# EAGLE library part EDB* (library mcu)
edit this description Auto generated by make-symbol-device-package-bsdl.ulp Rev. 44 Source: Connect-List generated from LP2_DUMMY.DEV Variant LP with connect-device-split-symbol.ulp Connect-List generated from EDB*32BE?-1DIT-F.DEV Variant BH with connect-device-split-symbol.ulp
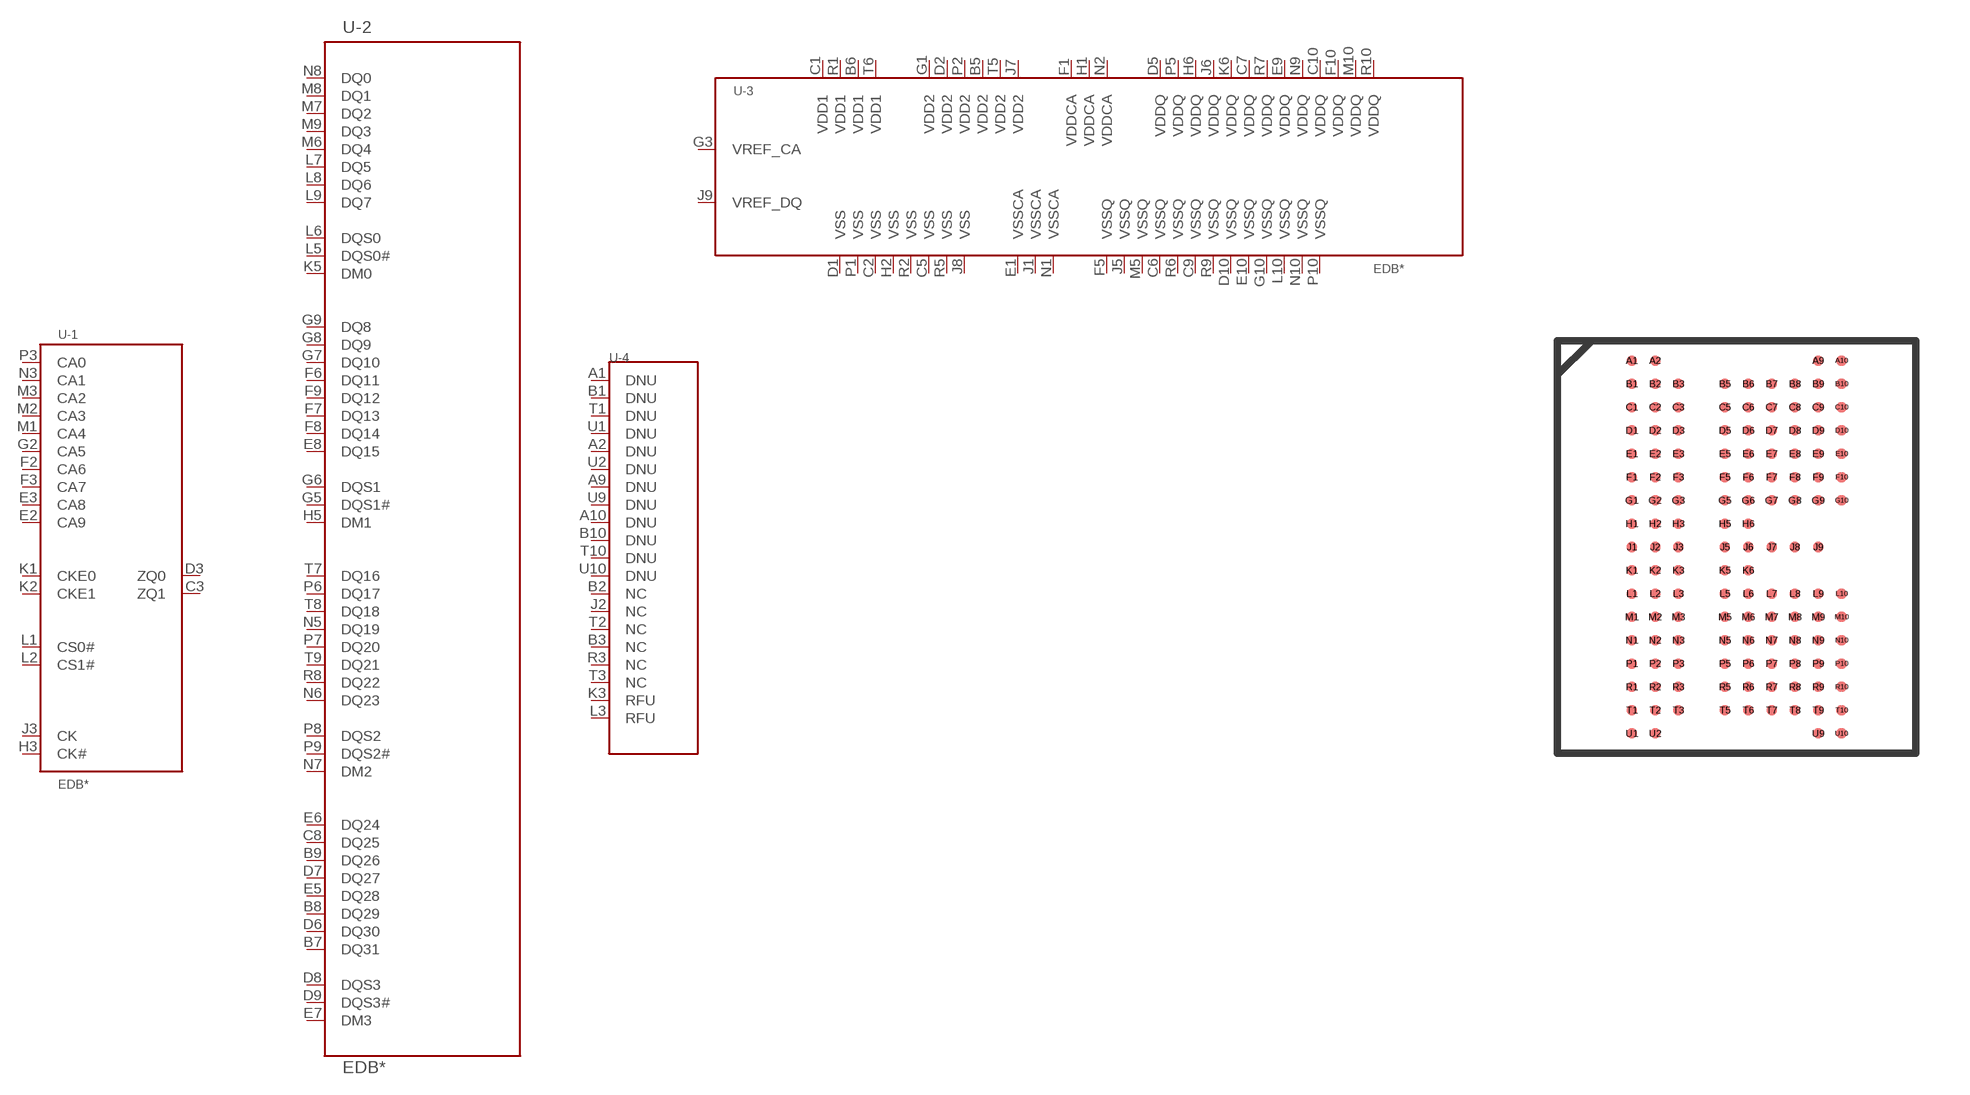
[diagram p1: symbol with the pads of VFBGA_134B_10X11.5; footprint VFBGA_134B_10X11.5]

Designator prefix U; gates -1=LPDDR2.CTRL -2=LPDDR2.DATA -4=LPDDR2.NC -3=LPDDR2.POWER

## EDB1332BDBH-1DIT-F (BUSWIDTH: x32; DATARATE: 1066; DENSITY: 1Gb; MANUFACTURER: Micron; TEMP: -40C to +85C), EDB5432BEBH-1DIT-F (BUSWIDTH: x32; DATARATE: 1066; DENSITY: 512Mb; MANUFACTURER: Micron; TEMP: -40C to +85C)  [VFBGA_134B_10X11.5]
A1  -4:DNU  nc
A2  -4:DNU  nc
A9  -4:DNU  nc
A10  -4:DNU  nc
B1  -4:DNU  nc
B2  -4:NC  nc
B3  -4:NC  nc
B5  -3:VDD2  pwr
B6  -3:VDD1  pwr
B7  -2:DQ31
B8  -2:DQ29
B9  -2:DQ26
B10  -4:DNU  nc
C1  -3:VDD1  pwr
C2  -3:VSS  pwr
C3  -1:ZQ1  hiz
C5  -3:VSS  pwr
C6  -3:VSSQ  pwr
C7  -3:VDDQ  pwr
C8  -2:DQ25
C9  -3:VSSQ  pwr
C10  -3:VDDQ  pwr
D1  -3:VSS  pwr
D2  -3:VDD2  pwr
D3  -1:ZQ0  hiz
D5  -3:VDDQ  pwr
D6  -2:DQ30
D7  -2:DQ27
D8  -2:DQS3
D9  -2:DQS3#
D10  -3:VSSQ  pwr
E1  -3:VSSCA  pwr
E2  -1:CA9  in
E3  -1:CA8  in
E5  -2:DQ28
E6  -2:DQ24
E7  -2:DM3  in
E8  -2:DQ15
E9  -3:VDDQ  pwr
E10  -3:VSSQ  pwr
F1  -3:VDDCA  pwr
F2  -1:CA6  in
F3  -1:CA7  in
F5  -3:VSSQ  pwr
F6  -2:DQ11
F7  -2:DQ13
F8  -2:DQ14
F9  -2:DQ12
F10  -3:VDDQ  pwr
G1  -3:VDD2  pwr
G2  -1:CA5  in
G3  -3:VREF_CA  pwr
G5  -2:DQS1#
G6  -2:DQS1
G7  -2:DQ10
G8  -2:DQ9
G9  -2:DQ8
G10  -3:VSSQ  pwr
H1  -3:VDDCA  pwr
H2  -3:VSS  pwr
H3  -1:CK#  in
H5  -2:DM1  in
H6  -3:VDDQ  pwr
J1  -3:VSSCA  pwr
J2  -4:NC  nc
J3  -1:CK  in
J5  -3:VSSQ  pwr
J6  -3:VDDQ  pwr
J7  -3:VDD2  pwr
J8  -3:VSS  pwr
J9  -3:VREF_DQ  pwr
K1  -1:CKE0  in
K2  -1:CKE1  in
K3  -4:RFU  nc
K5  -2:DM0  in
K6  -3:VDDQ  pwr
L1  -1:CS0#  in
L2  -1:CS1#  in
L3  -4:RFU  nc
L5  -2:DQS0#
L6  -2:DQS0
L7  -2:DQ5
L8  -2:DQ6
L9  -2:DQ7
L10  -3:VSSQ  pwr
M1  -1:CA4  in
M2  -1:CA3  in
M3  -1:CA2  in
M5  -3:VSSQ  pwr
M6  -2:DQ4
M7  -2:DQ2
M8  -2:DQ1
M9  -2:DQ3
M10  -3:VDDQ  pwr
N1  -3:VSSCA  pwr
N2  -3:VDDCA  pwr
N3  -1:CA1  in
N5  -2:DQ19
N6  -2:DQ23
N7  -2:DM2  in
N8  -2:DQ0
N9  -3:VDDQ  pwr
N10  -3:VSSQ  pwr
P1  -3:VSS  pwr
P2  -3:VDD2  pwr
P3  -1:CA0  in
P5  -3:VDDQ  pwr
P6  -2:DQ17
P7  -2:DQ20
P8  -2:DQS2
P9  -2:DQS2#
P10  -3:VSSQ  pwr
R1  -3:VDD1  pwr
R2  -3:VSS  pwr
R3  -4:NC  nc
R5  -3:VSS  pwr
R6  -3:VSSQ  pwr
R7  -3:VDDQ  pwr
R8  -2:DQ22
R9  -3:VSSQ  pwr
R10  -3:VDDQ  pwr
T1  -4:DNU  nc
T2  -4:NC  nc
T3  -4:NC  nc
T5  -3:VDD2  pwr
T6  -3:VDD1  pwr
T7  -2:DQ16
T8  -2:DQ18
T9  -2:DQ21
T10  -4:DNU  nc
U1  -4:DNU  nc
U2  -4:DNU  nc
U9  -4:DNU  nc
U10  -4:DNU  nc

## Footprint VFBGA_134B_10X11.5 (pad centres in mm)
edit this description Auto generated by make-symbol-device-package-bsdl.ulp Rev. 44 Source:
smd 0.3 x 0.3: A1 -2.925,5.2; A2 -2.275,5.2; A9 2.275,5.2; A10 2.925,5.2; B1 -2.925,4.55; B2 -2.275,4.55; B3 -1.625,4.55; B5 -0.325,4.55; B6 0.325,4.55; B7 0.975,4.55; B8 1.625,4.55; B9 2.275,4.55; B10 2.925,4.55; C1 -2.925,3.9; C2 -2.275,3.9; C3 -1.625,3.9; C5 -0.325,3.9; C6 0.325,3.9; C7 0.975,3.9; C8 1.625,3.9; C9 2.275,3.9; C10 2.925,3.9; D1 -2.925,3.25; D2 -2.275,3.25; D3 -1.625,3.25; D5 -0.325,3.25; D6 0.325,3.25; D7 0.975,3.25; D8 1.625,3.25; D9 2.275,3.25; D10 2.925,3.25; E1 -2.925,2.6; E2 -2.275,2.6; E3 -1.625,2.6; E5 -0.325,2.6; E6 0.325,2.6; E7 0.975,2.6; E8 1.625,2.6; E9 2.275,2.6; E10 2.925,2.6; F1 -2.925,1.95; F2 -2.275,1.95; F3 -1.625,1.95; F5 -0.325,1.95; F6 0.325,1.95; F7 0.975,1.95; F8 1.625,1.95; F9 2.275,1.95; F10 2.925,1.95; G1 -2.925,1.3; G2 -2.275,1.3; G3 -1.625,1.3; G5 -0.325,1.3; G6 0.325,1.3; G7 0.975,1.3; G8 1.625,1.3; G9 2.275,1.3; G10 2.925,1.3; H1 -2.925,0.65; H2 -2.275,0.65; H3 -1.625,0.65; H5 -0.325,0.65; H6 0.325,0.65; J1 -2.925,0; J2 -2.275,0; J3 -1.625,0; J5 -0.325,0; J6 0.325,0; J7 0.975,0; J8 1.625,0; J9 2.275,0; K1 -2.925,-0.65; K2 -2.275,-0.65; K3 -1.625,-0.65; K5 -0.325,-0.65; K6 0.325,-0.65; L1 -2.925,-1.3; L2 -2.275,-1.3; L3 -1.625,-1.3; L5 -0.325,-1.3; L6 0.325,-1.3; L7 0.975,-1.3; L8 1.625,-1.3; L9 2.275,-1.3; L10 2.925,-1.3; M1 -2.925,-1.95; M2 -2.275,-1.95; M3 -1.625,-1.95; M5 -0.325,-1.95; M6 0.325,-1.95; M7 0.975,-1.95; M8 1.625,-1.95; M9 2.275,-1.95; M10 2.925,-1.95; N1 -2.925,-2.6; N2 -2.275,-2.6; N3 -1.625,-2.6; N5 -0.325,-2.6; N6 0.325,-2.6; N7 0.975,-2.6; N8 1.625,-2.6; N9 2.275,-2.6; N10 2.925,-2.6; P1 -2.925,-3.25; P2 -2.275,-3.25; P3 -1.625,-3.25; P5 -0.325,-3.25; P6 0.325,-3.25; P7 0.975,-3.25; P8 1.625,-3.25; P9 2.275,-3.25; P10 2.925,-3.25; R1 -2.925,-3.9; R2 -2.275,-3.9; R3 -1.625,-3.9; R5 -0.325,-3.9; R6 0.325,-3.9; R7 0.975,-3.9; R8 1.625,-3.9; R9 2.275,-3.9; R10 2.925,-3.9; T1 -2.925,-4.55; T2 -2.275,-4.55; T3 -1.625,-4.55; T5 -0.325,-4.55; T6 0.325,-4.55; T7 0.975,-4.55; T8 1.625,-4.55; T9 2.275,-4.55; T10 2.925,-4.55; U1 -2.925,-5.2; U2 -2.275,-5.2; U9 2.275,-5.2; U10 2.925,-5.2